# Altium integrated library Integrated_Library.IntLib: 1 symbol
Pins are listed as number, name and electrical type; pins without a type are passive.

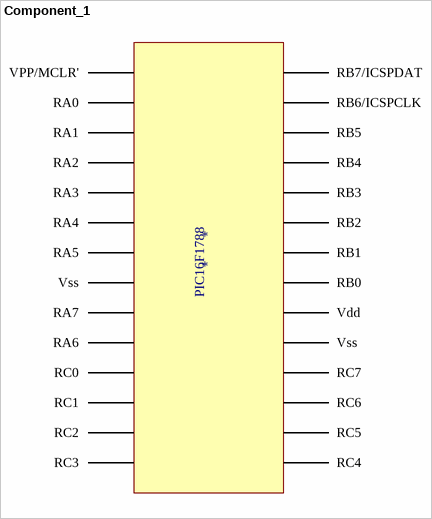
[diagram p0: symbol Component_1]

## Component_1
designator *
pins: 0 VPP/MCLR', 1 RA0, 2 RA1, 3 RA2, 4 RA3, 5 RA4, 6 RA5, 7 Vss, 8 RA7, 9 RA6, 10 RC0, 11 RC1, 12 RC2, 13 RC3, 14 RC4, 15 RC5, 16 RC6, 17 RC7, 18 Vss, 19 Vdd, 20 RB0, 21 RB1, 22 RB2, 23 RB3, 24 RB4, 25 RB5, 26 RB6/ICSPCLK, 27 RB7/ICSPDAT
text: PIC16F1788